# Altium schematic symbol library components.SchLib: 13 symbols
Pins are listed as number, name and electrical type; pins without a type are passive.

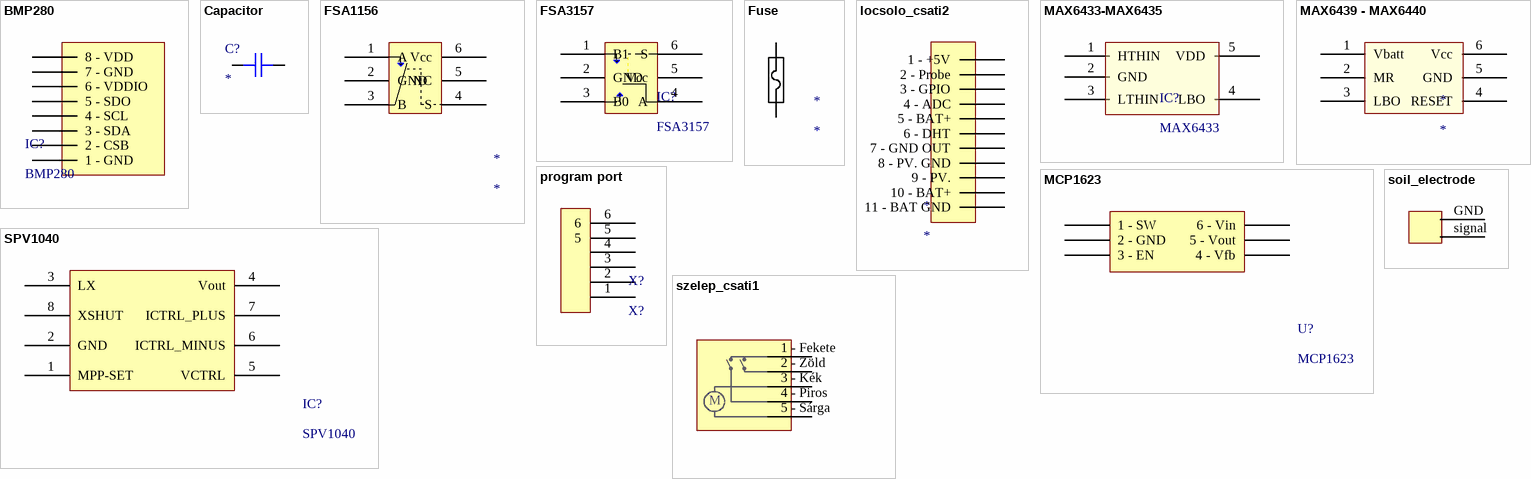
[diagram p0: symbols BMP280 to szelep_csati1]

## BMP280
designator IC?
Part Number: BMP280
footprint BMP280
pins: 1 1 - GND, 2 2 - CSB, 3 3 - SDA, 4 4 - SCL, 5 5 - SDO, 6 6 - VDDIO, 7 7 - GND, 8 8 - VDD

## Capacitor
designator C?
Value: *; Voltage: *; Part Number: *; first in version: *
footprint CAPC3216X15L_1206_S (Chip Capacitor, 2-Leads, Body 3,20x1,60mm, IPC High Density)
footprint CAPC3225X15L (Chip Capacitor, 1210, 2-Leads, Body 3,20x2,50mm, IPC High Density)
footprint SMD-0805-C
footprint CAPC450X320X110L60N (Capacitor, Chip; 4.50 mm L X 3.20 mm W X 1.10 mm H body)
footprint CAPC160X80X90L35N (Capacitor, Chip; 1.60 mm L X 0.80 mm W X 0.90 mm H body)
footprint CAPC200X125X110L50N (Capacitor, Chip; 2.00 mm L X 1.25 mm W X 1.10 mm H body)
footprint CAPC160X80X90L30N (Capacitor, Chip; 1.60 mm L X 0.80 mm W X 0.90 mm H body)
pins: 1, 2

## FSA1156
designator *
footprint SC70-6 (SC70-6; SOT-363)
pins: 1 A, 2 GND, 3 B, 4 S, 5 NC, 6 Vcc

## FSA3157
designator IC?
Part Number: FSA3157
footprint SC70-6 (Footprint not found)
pins: 1 B1, 2 GND, 3 B0, 4 A, 5 Vcc, 6 S

## Fuse
designator *
footprint Fuse_1206
pins: 1, 2

## locsolo_csati2
designator *
footprint locsolo_csati2
pins: 1 1 - +5V, 2 2 - Probe, 3 3 - GPIO, 4 4 - ADC, 5 5 - BAT+, 6 6 - DHT, 7 7 - GND OUT, 8 8 - PV. GND, 9 9 - PV., 10 10 - BAT+, 11 11 - BAT GND

## MAX6433-MAX6435
designator IC?, comment MAX6433
MAX6433-MAX6435; Part Number: MAX6433
footprint SOT23-5 (SOT-23/SC-74A; 5 Leads; Body 3 x 3 mm, inc. leads (LxW max))
pins: 1 HTHIN, 2 GND, 3 LTHIN, 4 LBO, 5 VDD

## MAX6439 - MAX6440
designator *
footprint SOT23-6 (Footprint not found)
pins: 1 Vbatt, 2 MR, 3 LBO, 4 RESET, 5 GND, 6 Vcc

## MCP1623
designator U?
Part Number: MCP1623
pins: 1 1 - SW, 2 2 - GND, 3 3 - EN, 4 4 - Vfb, 5 5 - Vout, 6 6 - Vin

## program port
designator X?, comment X?
footprint program port
pins: 1, 2, 3 2, 4, 5, 6

## soil_electrode
designator E?  (value not drawn)
footprint soil_electrode
pins: GND, signal

## SPV1040
designator IC?
Part Number: SPV1040
footprint SPV1040
pins: 1 MPP-SET, 2 GND, 3 LX, 4 Vout, 5 VCTRL, 6 ICTRL_MINUS, 7 ICTRL_PLUS, 8 XSHUT

## szelep_csati1
designator *
footprint Szelep_csati
pins: 1 - Fekete 1, 2 - Zöld 2, 3 - Kék 3, 4 - Piros 4, 5 - Sárga 5
text: M